# Altium integrated library Library Nucleo F767ZI.IntLib: 1 symbol
Pins are listed as number, name and electrical type; pins without a type are passive.

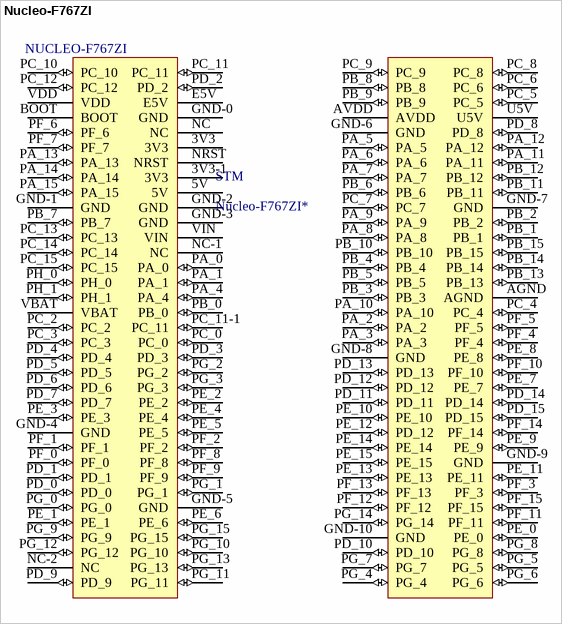
[diagram p0: symbol Nucleo-F767ZI]

## Nucleo-F767ZI
designator STM, comment Nucleo-F767ZI*  Supplier Part Number 1: NUCLEO-F767ZI
Nucleo F767ZI; Supplier 1: Future Electronics
footprint Nucleo-F767ZI (Footprint Nucleo-F767ZI)
pins: 3V3 (power), 3V3-1 3V3 (power), 5V (power), AGND (power), AVDD (power), BOOT (power), E5V (power), GND-0 GND (power), GND-1 GND (power), GND-2 GND (power), GND-3 GND (power), GND-4 GND (power), GND-5 GND (power), GND-6 GND (power), GND-7 GND (power), GND-8 GND (power), GND-9 GND (power), GND-10 GND (power), NC, NC-1 NC, NC-2 NC, NRST (power), PA_0 (io), PA_1 (io), PA_2 (io), PA_3 (io), PA_4 (io), PA_5 (io), PA_6 (io), PA_7 (io), PA_8 (io), PA_9 (io), PA_10 (io), PA_11 (io), PA_12 (io), PA_13 (io), PA_14 (io), PA_15 (io), PB_0 (io), PB_1 (io), PB_2 (io), PB_3 (io), PB_4 (io), PB_5 (io), PB_6 (io), PB_7 (io), PB_8 (io), PB_9 (io), PB_10 (io), PB_11 (io), PB_12 (io), PB_13 (io), PB_14 (io), PB_15 (io), PC_0 (io), PC_2 (io), PC_3 (io), PC_4 (io), PC_5 (io), PC_6 (io), PC_7 (io), PC_8 (io), PC_9 (io), PC_10 (io), PC_11 (io), PC_11-1 PC_11 (io), PC_12 (io), PC_13 (io), PC_14 (io), PC_15 (io), PD_0 (io), PD_1 (io), PD_2 (io), PD_3 (io), PD_4 (io), PD_5 (io), PD_6 (io), PD_7 (io), PD_8 (io), PD_9 (io), PD_10 (io), PD_11 (io), PD_12 (io), PD_13 (io), PD_14 (io), PD_15 (io), PE_0 (io), PE_1 (io), PE_2 (io), PE_3 (io), PE_4 (io), PE_5 (io), PE_6 (io), PE_7 (io), PE_8 (io), PE_9 (io), PE_10 (io), PE_11 (io), PE_12 PD_12 (io), PE_13 (io), PE_14 (io), PE_15 (io), PF_0 (io), PF_1 (io), PF_2 (io), PF_3 (io), PF_4 (io), PF_5 (io), PF_6 (io), PF_7 (io), PF_8 (io), PF_9 (io), PF_10 (io), PF_11 (io), PF_12 (io), PF_13 (io), PF_14 (io), PF_15 (io), PG_0 (io), PG_1 (io), PG_2 (io), PG_3 (io), PG_4 (io), PG_5 (io), PG_6 (io), PG_7 (io), PG_8 (io), PG_9 (io), PG_10 (io), PG_11 (io), PG_12 (io), PG_13 (io), PG_14 (io), PG_15 (io), PH_0 (io), PH_1 (io), U5V (power), VBAT (power), VDD (power), VIN (power)